# Altium schematic symbol library V2con_molex_6_52207-0633.SchLib: 1 symbol
Pins are listed as number, name and electrical type; pins without a type are passive.

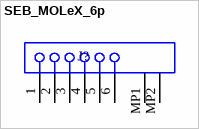
[diagram p0: symbol SEB_MOLeX_6p]

## SEB_MOLeX_6p
designator J?
footprint SEB_MOLeX_6p (52207-0633)
pins: 1, 2, 3, 4, 5, 6, MP1, MP2